# EAGLE library part MAX17048 (library atmega328pb_tqfn)
Micropower 1-Cell Li+ ModelGauge
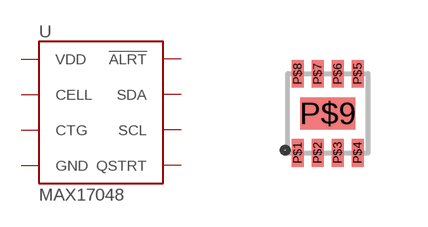
[diagram p132: symbol with the pads of DFN-8; footprint DFN-8]

Designator prefix -

## MAX17048DFN8  [DFN-8]
P$1  CTG  in
P$2  CELL  in
P$3  VDD
P$4  GND
P$5  !ALRT
P$6  QSTRT
P$7  SCL  out
P$8  SDA  in
P$9  GND

## Footprint DFN-8 (pad centres in mm)
Now follows http://pdfserv.maximintegrated.com/land_patterns/90-0065.PDF Pasted was reduced by 40% width on the center ground pad, and some amount on the other 8. Stop mask extends 135 µm wider than the pad to hit dead center of what IPC-7351 recommends.
smd 0.3 x 0.7: P$1 -0.75,-0.99; P$2 -0.25,-0.99; P$3 0.25,-0.99; P$4 0.75,-0.99; P$5 0.75,0.99; P$6 0.25,0.99; P$7 -0.25,0.99; P$8 -0.75,0.99
smd 1.38 x 0.8: P$9 0,0